# Altium footprint library PcbLib1.PcbLib: 12 footprints
Each footprint in its own frame and in the unit in brackets; x right, y up, seen from the top. Pads: shape width x height; smd on the part's side, far side on the other; paste and mask are expansions set on the pad; w line width, h text height; cw(c..) or ccw(c..) is an arc to the next point about the centre after c.
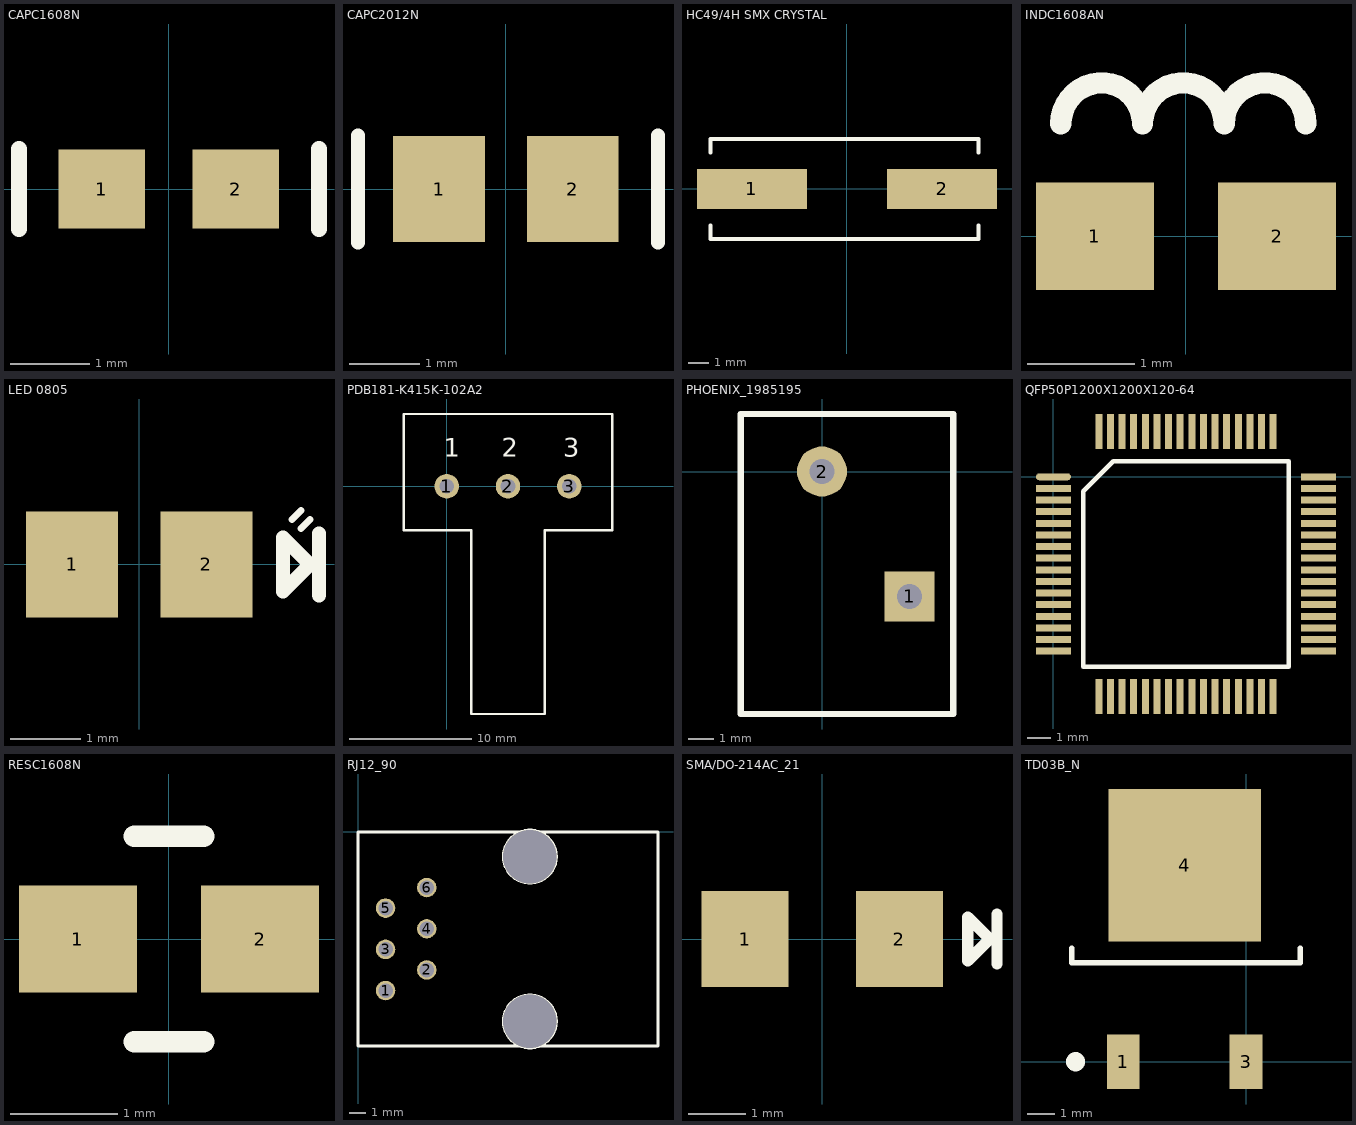
[diagram p0: the footprints below, top view; thin cyan lines are the x and y axes]

## CAPC1608N [mm]
pads (2):
  rect 1.1x1 smd: 1(-0.85,0) 2(0.85,0)
Top Overlay:
  lines w0.2: -1.9,-0.508 -1.9,0 -1.9,0.508 ; 1.905,-0.508 1.905,0.508

## CAPC2012N [mm]
pads (2):
  rect 1.3x1.5 smd: 1(-0.95,0) 2(0.95,0)
Top Overlay:
  lines w0.2: -2.1,-0.762 -2.1,0 -2.1,0.762 ; 2.159,-0.762 2.159,0.762

## HC49/4H SMX CRYSTAL [mm]
pads (2):
  rect 5.5x2 smd: 1(-4.75,0) 2(4.75,0)
Top Overlay:
  lines w0.2: -6.827,-1.813 -6.827,-2.5 6.573,-2.5 6.573,-1.813 ; -6.827,1.813 -6.827,2.5 6.573,2.5 6.573,1.813

## INDC1608AN [mm]
pads (2):
  rect 1.1x1 smd: 1(-0.85,0) 2(0.85,0)
Top Overlay:
  lines w0.2: -1.168,1.05 cw(c-0.787,1.05) -0.406,1.05 cw(c-0.025,1.05) 0.356,1.05 cw(c0.737,1.05) 1.118,1.05

## LED 0805 [mm]
pads (2):
  rect 1.3x1.5 smd: 1(-0.95,0) 2(0.95,0)
Top Overlay:
  lines w0.1: 2.159,0.635 2.286,0.762 ; 2.286,0.508 2.413,0.635
  lines w0.2: 2.54,-0.435 2.54,0.435 ; 2.032,-0.381 2.032,0.381 2.413,0 2.032,-0.381

## PDB181-K415K-102A2 [mm]
pads (3):
  round 2 hole 1.2: 1(0,0) 2(5,0) 3(10,0)
Top Overlay:
  lines w0.2: -3.5,-3.6 2,-3.6 2,-18.6 8,-18.6 8,-3.6 13.5,-3.6 13.5,5.9 -3.5,5.9 -3.5,-3.6
  text "3" at 9.492,2.423 h1.52
  text "2" at 4.492,2.423 h1.52
  text "1" at -0.254,2.423 h1.52

## PHOENIX_1985195 [mm]
pads (2):
  rect 2x2 hole 1: 1(3.5,-5)
  round 2 hole 1: 2(0,0)
Top Overlay:
  lines w0.254: -3.25,-9.7 5.25,-9.7 5.25,2.3 -3.25,2.3 -3.25,-9.7

## QFP50P1200X1200X120-64 [mm]
pads (64):
  oval 1.5x0.3 smd: 1(0,0)
  rect 1.5x0.3 smd: 2(0,-0.5) 3(0,-1) 4(0,-1.5) 5(0,-2) 6(0,-2.5) 7(0,-3) 8(0,-3.5) 9(0,-4) 10(0,-4.5) 11(0,-5) 12(0,-5.5) 13(0,-6) 14(0,-6.5) 15(0,-7) 16(0,-7.5) 33(11.4,-7.5) 34(11.4,-7) 35(11.4,-6.5) 36(11.4,-6) 37(11.4,-5.5) 38(11.4,-5) 39(11.4,-4.5) 40(11.4,-4) 41(11.4,-3.5) 42(11.4,-3) 43(11.4,-2.5) 44(11.4,-2) 45(11.4,-1.5) 46(11.4,-1) 47(11.4,-0.5) 48(11.4,0)
  rect 0.3x1.5 smd: 17(1.95,-9.45) 18(2.45,-9.45) 19(2.95,-9.45) 20(3.45,-9.45) 21(3.95,-9.45) 22(4.45,-9.45) 23(4.95,-9.45) 24(5.45,-9.45) 25(5.95,-9.45) 26(6.45,-9.45) 27(6.95,-9.45) 28(7.45,-9.45) 29(7.95,-9.45) 30(8.45,-9.45) 31(8.95,-9.45) 32(9.45,-9.45) 49(9.45,1.95) 50(8.95,1.95) 51(8.45,1.95) 52(7.95,1.95) 53(7.45,1.95) 54(6.95,1.95) 55(6.45,1.95) 56(5.95,1.95) 57(5.45,1.95) 58(4.95,1.95) 59(4.45,1.95) 60(3.95,1.95) 61(3.45,1.95) 62(2.95,1.95) 63(2.45,1.95) 64(1.95,1.95)
Top Overlay:
  lines w0.2: 1.285,-8.165 1.285,-0.62 2.57,0.665 10.115,0.665 10.115,-8.165 1.285,-8.165

## RESC1608N [mm]
pads (2):
  rect 1.1x1 smd: 1(-0.85,0) 2(0.85,0)
Top Overlay:
  lines w0.2: -0.325,-0.96 0.325,-0.96 ; -0.325,0.96 0.325,0.96

## RJ12_90 [mm]
height 11.5
pads (6):
  round 1.2 hole 0.9: 1(1.7,-9.78) 2(4.24,-8.51) 3(1.7,-7.24) 4(4.24,-5.97) 5(1.7,-4.7) 6(4.24,-3.43)
via 10.6,-11.68 diameter 3.3 hole 3.3
via 10.6,-1.52 diameter 3.3 hole 3.3
Top Overlay:
  circle w0.2: c10.6,-1.52 r1.625
  circle w0.2: c10.6,-11.68 r1.625
  lines w0.2: 0,-13.2 18.5,-13.2 18.5,0 0,0 0,-13.2

## SMA/DO-214AC_21 [mm]
pads (2):
  rect 1.52x1.68 smd: 1(-1.345,0) 2(1.345,0)
Top Overlay:
  lines w0.2: 3.048,-0.435 3.048,0.435 ; 2.54,-0.381 2.54,0.381 2.921,0 2.54,-0.381

## TD03B_N [mm]
pads (3):
  rect 1.2x2 smd: 1(-4.5,0) 3(0,0)
  rect 5.6x5.6 smd: 4(-2.25,7.2)
Top Overlay:
  circle w0.5: c-6.25,0 r0.1
  lines w0.2: -6.391,4.166 -6.391,3.625 1.991,3.625 1.991,4.166